# EAGLE library part RP2350A (library 2026-01-08_13-54-50_Library)
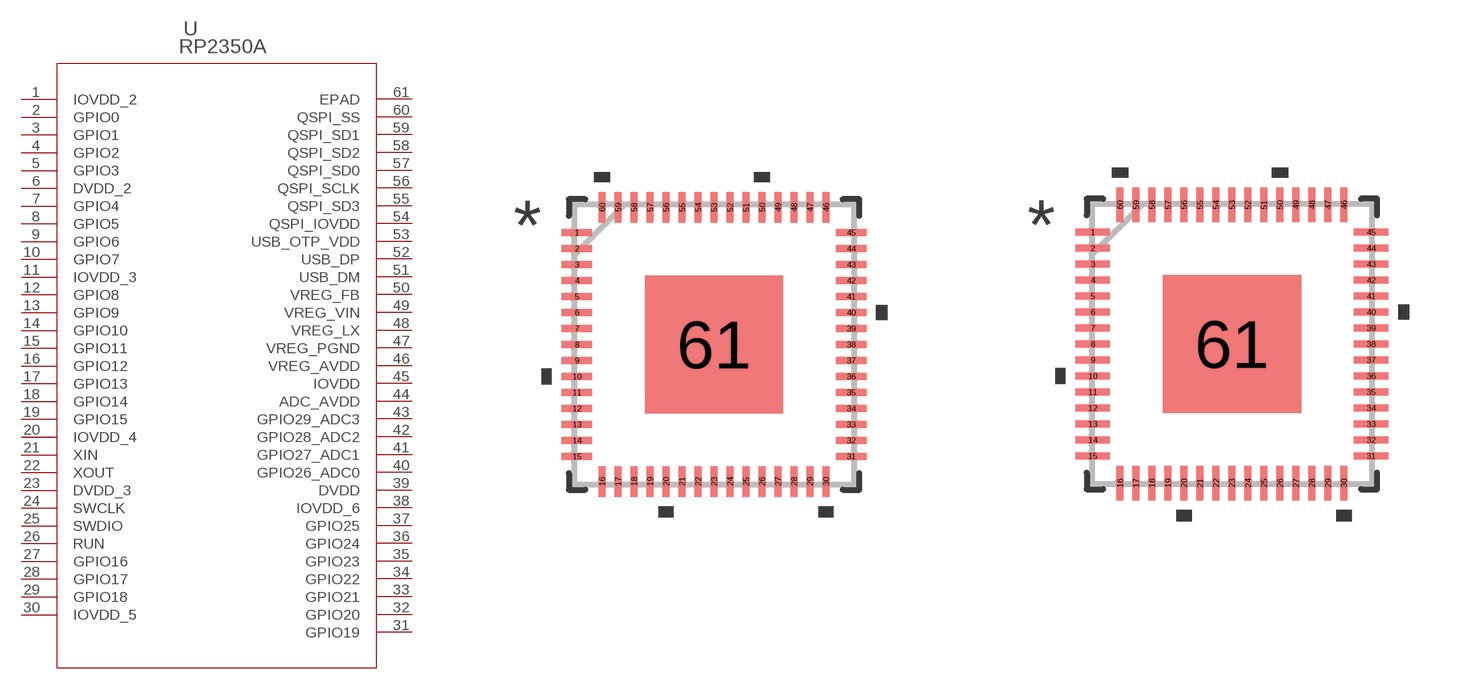
[diagram p0: symbol with the pads of QFN-60_7X7_RPI; footprints QFN-60_7X7_RPI, QFN-60_7X7_RPI-M]

Designator prefix U

## RP2350AQFN-60_7X7_RPI (Copyright: Copyright (C) 2026 Ultra Librarian. All rights reserved.; Manufacturer_Name: Raspberry Pi; Manufacturer_Part_Number: RP2350A)  [QFN-60_7X7_RPI]
1  IOVDD_2  pwr
2  GPIO0
3  GPIO1
4  GPIO2
5  GPIO3
6  DVDD_2  pwr
7  GPIO4
8  GPIO5
9  GPIO6
10  GPIO7
11  IOVDD_3  pwr
12  GPIO8
13  GPIO9
14  GPIO10
15  GPIO11
16  GPIO12
17  GPIO13
18  GPIO14
19  GPIO15
20  IOVDD_4  pwr
21  XIN  pas
22  XOUT  out
23  DVDD_3  pwr
24  SWCLK  pas
25  SWDIO  pas
26  RUN  pas
27  GPIO16
28  GPIO17
29  GPIO18
30  IOVDD_5  pwr
31  GPIO19
32  GPIO20
33  GPIO21
34  GPIO22
35  GPIO23
36  GPIO24
37  GPIO25
38  IOVDD_6  pwr
39  DVDD  pwr
40  GPIO26_ADC0
41  GPIO27_ADC1
42  GPIO28_ADC2
43  GPIO29_ADC3
44  ADC_AVDD  pwr
45  IOVDD  pwr
46  VREG_AVDD  pwr
47  VREG_PGND  pas
48  VREG_LX  pas
49  VREG_VIN  pas
50  VREG_FB  pas
51  USB_DM  pas
52  USB_DP  pas
53  USB_OTP_VDD  pwr
54  QSPI_IOVDD  pwr
55  QSPI_SD3
56  QSPI_SCLK  pas
57  QSPI_SD0
58  QSPI_SD2
59  QSPI_SD1
60  QSPI_SS  pas
61  EPAD  pas

## RP2350AQFN-60_7X7_RPI-M (Copyright: Copyright (C) 2026 Ultra Librarian. All rights reserved.; Manufacturer_Name: Raspberry Pi; Manufacturer_Part_Number: RP2350A)  [QFN-60_7X7_RPI-M]
Pads as for QFN-60_7X7_RPI

## RP2350AQFN-60_7X7_RPI-L (Copyright: Copyright (C) 2026 Ultra Librarian. All rights reserved.; Manufacturer_Name: Raspberry Pi; Manufacturer_Part_Number: RP2350A)  [QFN-60_7X7_RPI-L]
Pads as for QFN-60_7X7_RPI

## Footprint QFN-60_7X7_RPI (pad centres in mm)
smd 0.762 x 0.178: 1 -3.429,2.8; 2 -3.429,2.4; 3 -3.429,2; 4 -3.429,1.6; 5 -3.429,1.2; 6 -3.429,0.8; 7 -3.429,0.4; 8 -3.429,0; 9 -3.429,-0.4; 10 -3.429,-0.8; 11 -3.429,-1.2; 12 -3.429,-1.6; 13 -3.429,-2; 14 -3.429,-2.4; 15 -3.429,-2.8; 31 3.429,-2.8; 32 3.429,-2.4; 33 3.429,-2; 34 3.429,-1.6; 35 3.429,-1.2; 36 3.429,-0.8; 37 3.429,-0.4; 38 3.429,0; 39 3.429,0.4; 40 3.429,0.8; 41 3.429,1.2; 42 3.429,1.6; 43 3.429,2; 44 3.429,2.4; 45 3.429,2.8
smd 0.178 x 0.762: 16 -2.8,-3.429; 17 -2.4,-3.429; 18 -2,-3.429; 19 -1.6,-3.429; 20 -1.2,-3.429; 21 -0.8,-3.429; 22 -0.4,-3.429; 23 0,-3.429; 24 0.4,-3.429; 25 0.8,-3.429; 26 1.2,-3.429; 27 1.6,-3.429; 28 2,-3.429; 29 2.4,-3.429; 30 2.8,-3.429; 46 2.8,3.429; 47 2.4,3.429; 48 2,3.429; 49 1.6,3.429; 50 1.2,3.429; 51 0.8,3.429; 52 0.4,3.429; 53 0,3.429; 54 -0.4,3.429; 55 -0.8,3.429; 56 -1.2,3.429; 57 -1.6,3.429; 58 -2,3.429; 59 -2.4,3.429; 60 -2.8,3.429
smd 3.454 x 3.454: 61 0,0

## Footprint QFN-60_7X7_RPI-M (pad centres in mm)
smd 0.864 x 0.178: 1 -3.48,2.8; 2 -3.48,2.4; 3 -3.48,2; 4 -3.48,1.6; 5 -3.48,1.2; 6 -3.48,0.8; 7 -3.48,0.4; 8 -3.48,0; 9 -3.48,-0.4; 10 -3.48,-0.8; 11 -3.48,-1.2; 12 -3.48,-1.6; 13 -3.48,-2; 14 -3.48,-2.4; 15 -3.48,-2.8; 31 3.48,-2.8; 32 3.48,-2.4; 33 3.48,-2; 34 3.48,-1.6; 35 3.48,-1.2; 36 3.48,-0.8; 37 3.48,-0.4; 38 3.48,0; 39 3.48,0.4; 40 3.48,0.8; 41 3.48,1.2; 42 3.48,1.6; 43 3.48,2; 44 3.48,2.4; 45 3.48,2.8
smd 0.178 x 0.864: 16 -2.8,-3.48; 17 -2.4,-3.48; 18 -2,-3.48; 19 -1.6,-3.48; 20 -1.2,-3.48; 21 -0.8,-3.48; 22 -0.4,-3.48; 23 0,-3.48; 24 0.4,-3.48; 25 0.8,-3.48; 26 1.2,-3.48; 27 1.6,-3.48; 28 2,-3.48; 29 2.4,-3.48; 30 2.8,-3.48; 46 2.8,3.48; 47 2.4,3.48; 48 2,3.48; 49 1.6,3.48; 50 1.2,3.48; 51 0.8,3.48; 52 0.4,3.48; 53 0,3.48; 54 -0.4,3.48; 55 -0.8,3.48; 56 -1.2,3.48; 57 -1.6,3.48; 58 -2,3.48; 59 -2.4,3.48; 60 -2.8,3.48
smd 3.454 x 3.454: 61 0,0

## Footprint QFN-60_7X7_RPI-L (pad centres in mm)
smd 0.66 x 0.178: 1 -3.378,2.8; 2 -3.378,2.4; 3 -3.378,2; 4 -3.378,1.6; 5 -3.378,1.2; 6 -3.378,0.8; 7 -3.378,0.4; 8 -3.378,0; 9 -3.378,-0.4; 10 -3.378,-0.8; 11 -3.378,-1.2; 12 -3.378,-1.6; 13 -3.378,-2; 14 -3.378,-2.4; 15 -3.378,-2.8; 31 3.378,-2.8; 32 3.378,-2.4; 33 3.378,-2; 34 3.378,-1.6; 35 3.378,-1.2; 36 3.378,-0.8; 37 3.378,-0.4; 38 3.378,0; 39 3.378,0.4; 40 3.378,0.8; 41 3.378,1.2; 42 3.378,1.6; 43 3.378,2; 44 3.378,2.4; 45 3.378,2.8
smd 0.178 x 0.66: 16 -2.8,-3.378; 17 -2.4,-3.378; 18 -2,-3.378; 19 -1.6,-3.378; 20 -1.2,-3.378; 21 -0.8,-3.378; 22 -0.4,-3.378; 23 0,-3.378; 24 0.4,-3.378; 25 0.8,-3.378; 26 1.2,-3.378; 27 1.6,-3.378; 28 2,-3.378; 29 2.4,-3.378; 30 2.8,-3.378; 46 2.8,3.378; 47 2.4,3.378; 48 2,3.378; 49 1.6,3.378; 50 1.2,3.378; 51 0.8,3.378; 52 0.4,3.378; 53 0,3.378; 54 -0.4,3.378; 55 -0.8,3.378; 56 -1.2,3.378; 57 -1.6,3.378; 58 -2,3.378; 59 -2.4,3.378; 60 -2.8,3.378
smd 3.454 x 3.454: 61 0,0